# Altium footprint library DAB_EE365.PcbLib: 25 footprints (part 2 of 2)
Each footprint in its own frame and in the unit in brackets; x right, y up, seen from the top. Pads: shape width x height; smd on the part's side, far side on the other; paste and mask are expansions set on the pad; w line width, h text height; cw(c..) or ccw(c..) is an arc to the next point about the centre after c.
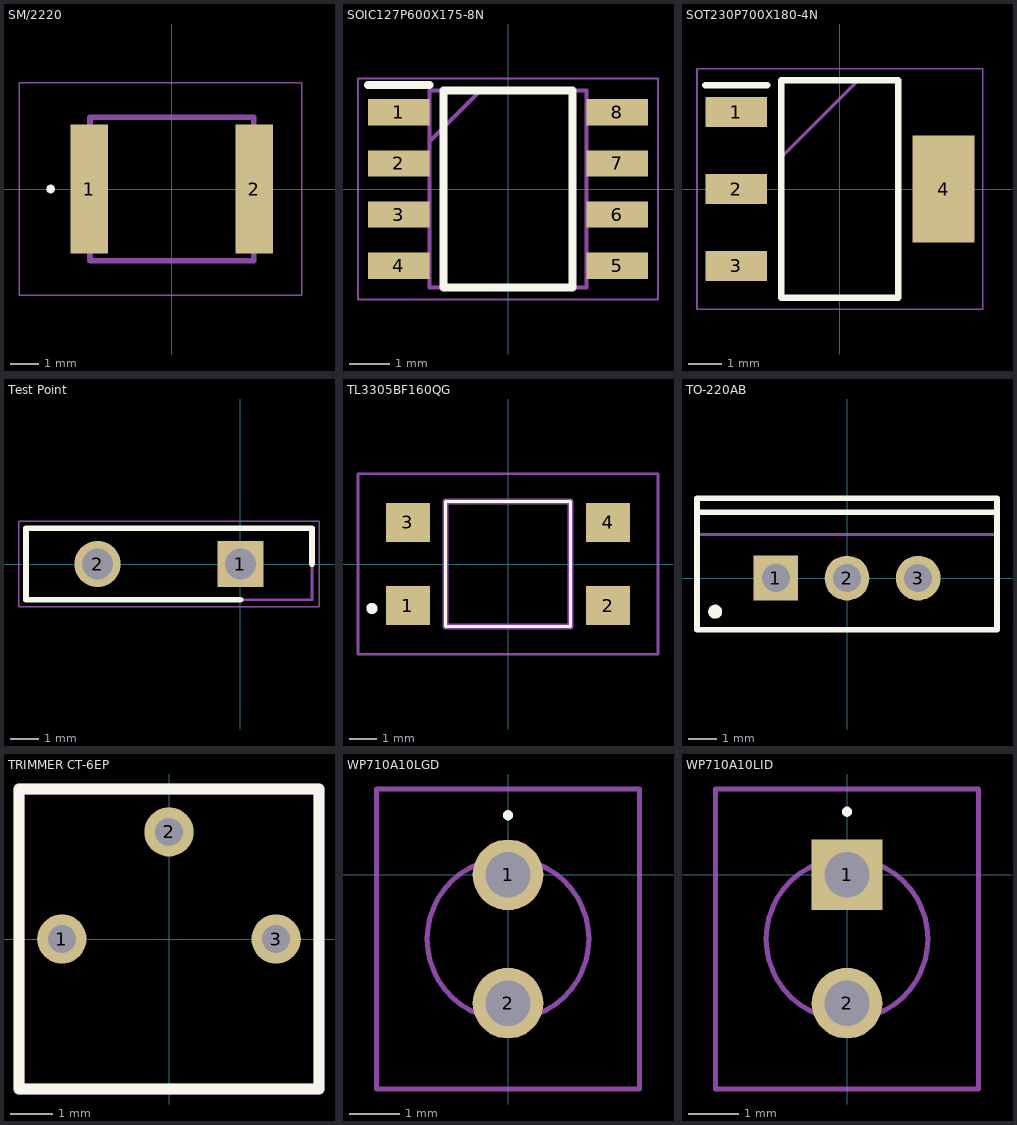
[diagram p1: the footprints below, top view; thin cyan lines are the x and y axes]

## SM/2220 [mm]
pads (2):
  rect 1.3x4.5 smd: 1(-2.875,0) 2(2.875,0)
Top Overlay:
  circle w0.2: c-4.225,0 r0.05
Mechanical 13:
  lines w0.2: -2.85,-2.5 -2.85,2.5 2.85,2.5 2.85,-2.5 -2.85,-2.5
Mechanical 15:
  lines w0.05: -5.325,-3.7 -5.325,3.7 4.525,3.7 4.525,-3.7 -5.325,-3.7
3D body "C5750C0G3A333J280KC.stp": height 2.77, standoff 0.03, extent -2.65,-2.45 2.65,2.45

## SOIC127P600X175-8N [mm]
height 0.6
pads (8):
  rect 1.525x0.65 smd: 1(-2.712,1.905) 2(-2.712,0.635) 3(-2.712,-0.635) 4(-2.712,-1.905) 5(2.712,-1.905) 6(2.712,-0.635) 7(2.712,0.635) 8(2.712,1.905)
Top Overlay:
  lines w0.2: -3.475,2.58 -1.95,2.58 ; -1.6,-2.45 -1.6,2.45 1.6,2.45 1.6,-2.45 -1.6,-2.45
Mechanical 13:
  lines w0.1: -1.95,1.18 -0.68,2.45 ; -1.95,-2.45 -1.95,2.45 1.95,2.45 1.95,-2.45 -1.95,-2.45
Mechanical 15:
  lines w0.05: -3.725,-2.75 -3.725,2.75 3.725,2.75 3.725,-2.75 -3.725,-2.75
3D body "NE555DR.stp": height 1.75, standoff 0, extent -3,-2.45 3,2.45

## SOT230P700X180-4N [mm]
pads (4):
  rect 1.85x0.9 smd: 1(-3.1,2.3) 2(-3.1,0) 3(-3.1,-2.3)
  rect 1.85x3.2 smd: 4(3.1,0)
Top Overlay:
  lines w0.2: -4.025,3.1 -2.175,3.1 ; -1.75,-3.25 -1.75,3.25 1.75,3.25 1.75,-3.25 -1.75,-3.25
Mechanical 13:
  lines w0.1: -1.75,0.95 0.55,3.25 ; -1.75,-3.25 -1.75,3.25 1.75,3.25 1.75,-3.25 -1.75,-3.25
Mechanical 15:
  lines w0.05: -4.275,-3.6 -4.275,3.6 4.275,3.6 4.275,-3.6 -4.275,-3.6
3D body "AZ1117IH-3.3TRG1.stp": height 1.8, standoff 0, extent -3.5,-3.25 3.5,3.25

## Test Point [mm]
pads (2):
  rect 1.65x1.65 hole 1.1: 1(0,0)
  round 1.65 hole 1.1: 2(-5.08,0)
Top Overlay:
  lines w0.2: 0,-1.27 -7.62,-1.27 -7.62,1.27 2.54,1.27 2.54,0
Mechanical 13:
  lines w0.1: -7.62,-1.27 2.54,-1.27 2.54,1.27 -7.62,1.27 -7.62,-1.27
Mechanical 15:
  lines w0.05: -7.87,-1.52 2.79,-1.52 2.79,1.52 -7.87,1.52 -7.87,-1.52
3D body "TSW-202-07-T-S.stp": height 8.38, standoff -2.54, extent -7.62,-1.27 2.54,1.27

## TL3305BF160QG [mm]
height 0.6
pads (4):
  rect 1.6x1.4 smd: 1(-3.6,-1.5) 2(3.6,-1.5) 3(-3.6,1.5) 4(3.6,1.5)
Top Overlay:
  lines w0.1: -2.25,-2.25 2.25,-2.25 2.25,2.25 -2.25,2.25 -2.25,-2.25
  lines w0.2: -5,-1.6 cw(c-4.9,-1.6) -4.8,-1.6 cw(c-4.9,-1.6) -5,-1.6
Mechanical 13:
  lines w0.2: -2.25,-2.25 2.25,-2.25 2.25,2.25 -2.25,2.25 -2.25,-2.25
Mechanical 15:
  lines w0.1: -5.4,-3.25 5.4,-3.25 5.4,3.25 -5.4,3.25 -5.4,-3.25
3D body "TL3305BF100QG.stp": height 4.9, standoff -0.1, extent -3.75,-2.25 3.75,2.25

## TO-220AB [mm]
height 19.3
pads (3):
  rect 1.6x1.6 hole 1: 1(-2.54,0)
  round 1.6 hole 1: 2(0,0) 3(2.54,0)
Top Overlay:
  circle w0.25: c-4.7,-1.2 r0.125
  lines w0.2: -5.35,2.35 5.35,2.35 ; -5.35,-1.85 5.35,-1.85 5.35,2.85 -5.35,2.85 -5.35,-1.85
Mechanical 13:
  lines w0.1: -5.35,1.55 5.35,1.55 ; -5.35,-1.85 -5.35,2.85 5.35,2.85 5.35,-1.85 -5.35,-1.85
Mechanical 15:
  lines w0.1: -0.5,0 0.5,0 ; 0,-0.5 0,0.5
3D body: height 19.3, standoff 12.9, extent -5.349,1.551 5.349,2.849
3D body: height 12.9, standoff 4, extent -5.4,-1.9 5.4,2.9

## TRIMMER CT-6EP [mm]
height 19.3
pads (3):
  round 1.15 hole 0.65: 1(-2.5,0) 2(0,2.5) 3(2.5,0)
Top Overlay:
  lines w0.254: -3.5,-3.5 3.5,-3.5 3.5,3.5 -3.5,3.5 -3.5,-3.5
Mechanical 13:
  lines w0.254: -3.5,-3.5 -3.5,3.5 3.5,3.5 3.5,-3.5 -3.5,-3.5

## WP710A10LGD [mm]
height 0.6
pads (2):
  round 1.4 hole 0.9: 1(0,0) 2(0,-2.54)
Top Overlay:
  lines w0.1: 0,1.13 ccw(c0,1.18) 0,1.23 ccw(c0,1.18) 0,1.13
Mechanical 13:
  lines w0.1: -1.6,-1.27 cw(c0,-1.27) 1.6,-1.27 cw(c0,-1.27) -1.6,-1.27
Mechanical 15:
  lines w0.1: -2.6,-4.24 2.6,-4.24 2.6,1.7 -2.6,1.7 -2.6,-4.24
3D body "WP710A10LGD.stp": height 6, standoff -5, extent -1.6,-2.887 1.6,0.347

## WP710A10LID [mm]
height 0.6
pads (2):
  rect 1.4x1.4 hole 0.9: 1(0,0)
  round 1.4 hole 0.9: 2(0,-2.54)
Top Overlay:
  lines w0.1: 0,1.2 ccw(c0,1.25) 0,1.3 ccw(c0,1.25) 0,1.2
Mechanical 13:
  lines w0.1: -1.6,-1.27 cw(c0,-1.27) 1.6,-1.27 cw(c0,-1.27) -1.6,-1.27
Mechanical 15:
  lines w0.1: -2.6,-4.24 -2.6,1.7 2.6,1.7 2.6,-4.24 -2.6,-4.24
3D body "WP710A10LID.stp": height 6, standoff -5, extent -1.6,-2.887 1.6,0.347